# Altium footprint library RELAY.PcbLib: 12 footprints
Each footprint in its own frame and in the unit in brackets; x right, y up, seen from the top. Pads: shape width x height; smd on the part's side, far side on the other; paste and mask are expansions set on the pad; w line width, h text height; cw(c..) or ccw(c..) is an arc to the next point about the centre after c.
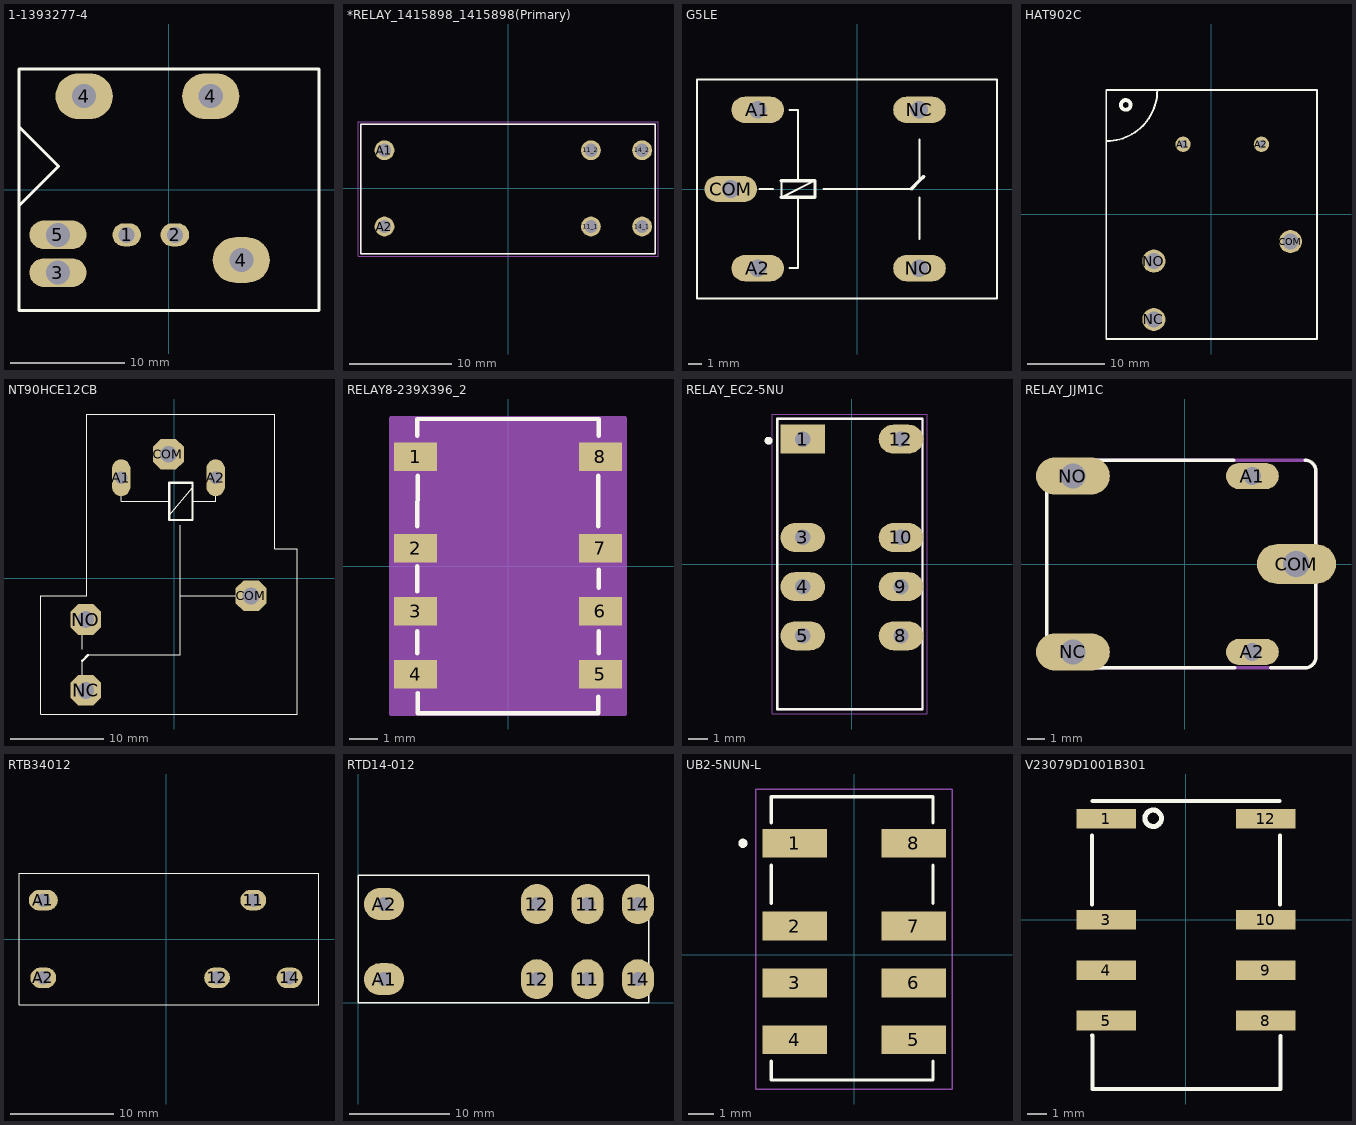
[diagram p0: the footprints below, top view; thin cyan lines are the x and y axes]

## 1-1393277-4 [mm]
pads (7):
  oval 2.5x2 hole 1.4: 1(-3.652,-3.954) 2(0.548,-3.954)
  oval 5x2.5 hole 2.1: 3(-9.652,-7.254) 5(-9.652,-3.954)
  oval 5x4 hole 2.1: 4(-7.366,8.146) 4(3.683,8.146) 4(6.348,-6.154)
Top Overlay:
  lines w0.254: -13.03,-1.397 -9.601,2.032 -13.03,5.461 ; -13.056,-10.554 13.132,-10.554 13.132,10.528 -13.056,10.528 -13.056,-10.554
3D body "c-1-1393277-7-o-3d.stp": height 20.66, standoff -3.54, extent -13.05,-10.55 13.05,10.55

## *RELAY_1415898_1415898(Primary) [mm]
pads (6):
  round 1.95 hole 1.3: 11_1(8.15,-3.75) 11_2(8.15,3.75) 14_1(13.19,-3.75) 14_2(13.19,3.75) A1(-12.15,3.75) A2(-12.15,-3.75)
Top Overlay:
  lines w0.127: -14.5,-6.41 -14.5,6.29 14.5,6.29 14.5,-6.41 -14.5,-6.41
Mechanical 13:
  lines w0.127: -14.5,-6.41 -14.5,6.29 ; -14.5,-6.41 14.5,-6.41 ; -14.5,-6.41 -14.5,6.29 ; -14.5,-6.41 14.5,-6.41 ; -14.5,6.29 14.5,6.29 ; -14.5,6.29 14.5,6.29 ; 14.5,-6.41 14.5,6.29 ; 14.5,-6.41 14.5,6.29
Mechanical 15:
  lines w0.05: -14.75,-6.66 -14.75,6.54 14.75,6.54 14.75,-6.66 -14.75,-6.66
3D body "c-1415898-d-3d.stp": height 15.7, standoff -3.5, extent -14.5,-6.35 14.5,6.35

## G5LE [mil]
pads (5):
  oval 156x78 hole 52: A1(-295,235) A2(-295,-235) COM(-375,0) NC(185,235) NO(185,-235)
Top Overlay:
  lines w6: -290,0 -250,0 ; -225,25 -225,-25 -125,25 ; -200,-235 -175,-235 -175,-25 ; -200,235 -175,235 -175,25 ; -100,0 160,0 ; 185,-148 185,-25 ; 185,25 185,147 ; -475,-325 415,-325 415,325 -475,325 -475,-325
  lines w10: -225,-25 -175,-25 -125,-25 -125,25 -175,25 -225,25 ; 160,0 185,25 198,37
Mechanical 16:
  text "G5LE" at 25,-300 h108.5
3D body "G5LE_1A.step": height 748.53, standoff -137.29, extent -467.91,-325 417.91,324.61

## HAT902C [mm]
pads (5):
  round 2 hole 1.1: A1(-3.688,9.101) A2(6.512,9.101)
  round 3 hole 2.1: COM(10.292,-3.559) NC(-7.488,-13.699) NO(-7.488,-6.099)
Top Overlay:
  circle w0.5: c-11.151,14.224 r0.627
  lines w0.254: -13.635,9.517 ccw(c-13.681,16.161) -7.036,16.161 ; -13.681,-16.239 -7.488,-16.239 13.719,-16.239 13.719,16.161 -13.681,16.161 -13.681,7.914 -13.681,-16.239
3D body: height 0, standoff 0, extent -8.479,-7.096 -6.487,-5.1
3D body: height 0, standoff 0, extent 9.301,-4.557 11.293,-2.56
3D body: height 0, standoff 0, extent 6.017,8.603 7.013,9.601
3D body: height 0, standoff 0, extent -8.479,-14.696 -6.487,-12.7
3D body: height 0, standoff 0, extent -4.183,8.603 -3.187,9.601
3D body: height 28, standoff 1, extent 8.934,-8.29 9.963,-1.971
3D body: height 28, standoff 1, extent 4.461,4.347 10.78,5.376
3D body: height 28, standoff 1, extent 4.486,12.013 10.805,13.042
3D body: height 28, standoff 0, extent -12.172,13.239 -10.18,15.235
3D body: height 27.95, standoff 27, extent -13.728,-16.296 13.677,16.093
3D body: height 15, standoff 0, extent 1.753,-10.973 13.38,15.714
3D body: height 27, standoff 0, extent -13.728,-16.296 13.677,16.104

## NT90HCE12CB [mil]
pads (6):
  oval 78x156 hole 52: A1(-225,425) A2(175,425)
  oct 130x130 hole 71: COM(-25,525) COM(325,-75) NC(-375,-475) NO(-375,-175)
Top Overlay:
  lines w5: -390,-472 -390,-350 ; -390,-300 -390,-177 ; -365,-325 25,-325 25,-75 ; -225,425 -225,325 -125,325 ; -161,325 -125,325 ; -22,266 77,384 ; -22,325 -125,325 ; 25,225 25,-75 ; 77,325 175,325 175,425 ; 325,-75 25,-75 ; -565,-575 520,-575 520,125 425,125 425,695 -370,695 -370,-75 -565,-75 -565,-575
  lines w10: -390,-350 -365,-325 ; -22,246 77,246 77,325 77,384 77,404 -22,404 -22,325 -22,266 -22,246
Mechanical 30:
  lines w4: -225.4,425 -225.4,502 ; 175,424 175,502
3D body "User Library-relay_t90_spdt.step": height 804, standoff -273, extent -563,-575 520,693

## RELAY8-239X396_2 [mm]
pads (8):
  rect 1.5x1 smd: 1(-3.238,3.835) 2(-3.238,0.635) 3(-3.238,-1.575) 4(-3.238,-3.785) 5(3.238,-3.785) 6(3.238,-1.575) 7(3.238,0.635) 8(3.238,3.835)
Top Overlay:
  lines w0.152: -3.175,-3.048 -3.175,-2.286 ; -3.175,-0.889 -3.175,0 ; -3.175,1.397 -3.162,3.175 ; -3.175,4.566 -3.175,5.156 3.162,5.156 ; -3.162,-4.445 -3.162,-5.156 3.162,-5.156 3.162,-4.572 ; 3.162,1.397 3.162,3.175 ; 3.175,-3.048 3.175,-2.286 ; 3.175,-0.762 3.175,-0.127 ; 3.175,4.566 3.175,5.156
Mechanical 13:
  lines w0: -0.305,5.029 ccw(c0,5.029) 0.305,5.029
Mechanical 15:
  region: 4.102,-5.182 -4.102,-5.182 -4.102,5.182 4.102,5.182
  lines w0.152: -4.102,-5.182 4.102,-5.182 4.102,5.182 -4.102,5.182 -4.102,-5.182
3D body "c-1462037-2-a-3d.stp": height 5.65, standoff 0, extent -3.758,-5 3.758,5

## RELAY_EC2-5NU [mm]
pads (8):
  rect 2.3x1.5 hole 0.8: 1(-2.54,6.45)
  oval 2.3x1.5 hole 0.8: 3(-2.54,1.37) 4(-2.54,-1.17) 5(-2.54,-3.71) 8(2.54,-3.71) 9(2.54,-1.17) 10(2.54,1.37) 12(2.54,6.45)
Top Overlay:
  circle w0.2: c-4.3,6.37 r0.1
  lines w0.127: -3.85,-7.5 3.65,-7.5 3.65,7.5 -3.85,7.5 -3.85,-7.5
Mechanical 13:
  circle w0.2: c-4.3,6.37 r0.1
  lines w0.127: -3.85,-7.5 3.65,-7.5 3.65,7.5 -3.85,7.5 -3.85,-7.5
Mechanical 15:
  lines w0.05: -4.1,-7.75 -4.1,7.75 3.9,7.75 3.9,-7.75 -4.1,-7.75
3D body "EC2-5NU.step": height 9.4, standoff -3.4, extent -3.81,-7.5 3.69,7.5

## RELAY_JJM1C [mm]
pads (5):
  oval 3x1.5 hole 1: A1(3.85,5) A2(3.85,-5)
  oval 4.5x2.25 hole 1.5: COM(6.35,0)
  oval 4.2x2.1 hole 1.4: NC(-6.35,-5) NO(-6.35,5)
Top Overlay:
  lines w0.203: -7.24,-5.9 cw(c-7.24,-5.29) -7.85,-5.29 -7.85,5.29 cw(c-7.24,5.29) -7.24,5.9 ; -5.3,-5.9 2.85,-5.9 ; -5.25,5.9 2.75,5.9 ; -5.2,5.9 2.75,5.9 ; 2.8,5.9 2.75,5.9 ; 4.9,-5.9 6.85,-5.9 ; 6.84,-5.9 ccw(c6.845,-5.287) 6.85,-5.9 ; 6.84,5.9 cw(c6.84,5.29) 7.45,5.29 ; 7.45,-5.29 cw(c6.84,-5.29) 6.85,-5.9 ; 7.45,-5.25 7.45,-1.1 ; 7.45,1.1 7.45,5.25
Mechanical 16:
  lines w0.203: -7.24,-5.9 6.84,-5.9 ; -7.24,5.9 6.84,5.9 ; 7.45,-5.29 7.45,5.29
3D body: height 14, standoff 0.44, extent -7.95,-6 7.55,6

## RTB34012 [mm]
pads (5):
  oval 2.5x2 hole 1.3: 11(8.4,3.75) 12(4.9,-3.75) 14(11.9,-3.75) A2(-11.9,-3.75)
  oval 2.8x2 hole 1.3: A1(-11.9,3.75)
Top Overlay:
  lines w0.1: -14.25,-6.35 14.75,-6.35 14.75,6.35 -14.25,6.35 -14.25,-6.35
3D body "c-3-1393238-0-e-3d.stp": height 15.71, standoff -3.59, extent -14.2,-6.3 14.8,6.4

## RTD14-012 [mm]
pads (8):
  oval 3.2x4 hole 1.4: 11(22.9,2.35) 11(22.9,9.85) 12(17.86,2.35) 12(17.86,9.85) 14(27.94,2.35) 14(27.94,9.85)
  oval 4x3.2 hole 1.4: A1(2.6,2.35) A2(2.6,9.85)
Top Overlay:
  lines w0.127: 0,0 29,0 29,12.725 0,12.725 0,0
3D body "c-6-1393238-2-c-3d.stp": height 15.71, standoff -3.59, extent 0.025,-0.025 29.025,12.675

## UB2-5NUN-L [mm]
pads (8):
  rect 2.5x1.11 smd mask+0.05: 1(-2.3,4.3) 2(-2.3,1.1) 3(-2.3,-1.1) 4(-2.3,-3.3) 5(2.3,-3.3) 6(2.3,-1.1) 7(2.3,1.1) 8(2.3,4.3)
Top Overlay:
  circle w0.254: c-4.3,4.3 r0.05
  lines w0.127: -3.2,-4.125 -3.2,-4.85 3.05,-4.85 3.05,-4.125 ; -3.2,1.975 -3.2,3.45 ; -3.2,5.1 -3.2,6.1 3.05,6.1 3.05,5.1 ; 3.05,1.975 3.05,3.45
Mechanical 15:
  lines w0.05: -3.8,-5.2 3.8,-5.2 3.8,6.4 -3.8,6.4 -3.8,-5.2
3D body "UB2-5NUN-L.step": height 9.01, standoff 0, extent -3,-4.8 3,6.1

## V23079D1001B301 [mm]
pads (8):
  rect 3x1 smd: 1(-4.012,5.08) 3(-4.012,0) 4(-4.012,-2.54) 5(-4.012,-5.08) 8(4.013,-5.08) 9(4.013,-2.54) 10(4.013,0) 12(4.013,5.08)
Top Overlay:
  circle w0.254: c-1.651,5.105 r0.413
  lines w0.2: -4.724,-5.817 -4.716,-5.817 -4.716,-8.52 4.75,-8.52 4.75,-5.842 ; -4.724,0.762 -4.724,4.242 ; -4.716,5.98 4.716,5.98 ; 4.724,0.762 4.724,4.242
3D body "c-5-1393788-5-d-3d.stp": height 10.4, standoff 0, extent -4.716,-8.52 4.716,5.98